# EAGLE library part LV53L0X (library VL53L0X)
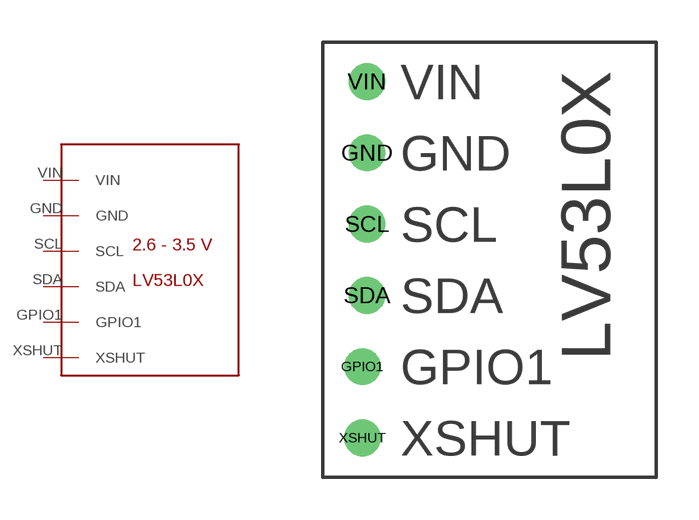
[diagram p0: symbol with the pads of LV53L0X; footprint LV53L0X]

Designator prefix -

## LV53L0X  [LV53L0X]
GND  GND
GPIO1  GPIO1
SCL  SCL
SDA  SDA
VIN  VIN
XSHUT  XSHUT

## Footprint LV53L0X (pad centres in mm)
drill 0.8: GND -5,1.27; GPIO1 -5.16,-6.35; SCL -5,-1.27; SDA -5,-3.81; VIN -5,3.81; XSHUT -5.16,-8.89